# Altium footprint library Connector.PcbLib: 97 footprints (part 5 of 7)
Each footprint in its own frame and in the unit in brackets; x right, y up, seen from the top. Pads: shape width x height; smd on the part's side, far side on the other; paste and mask are expansions set on the pad; w line width, h text height; cw(c..) or ccw(c..) is an arc to the next point about the centre after c.
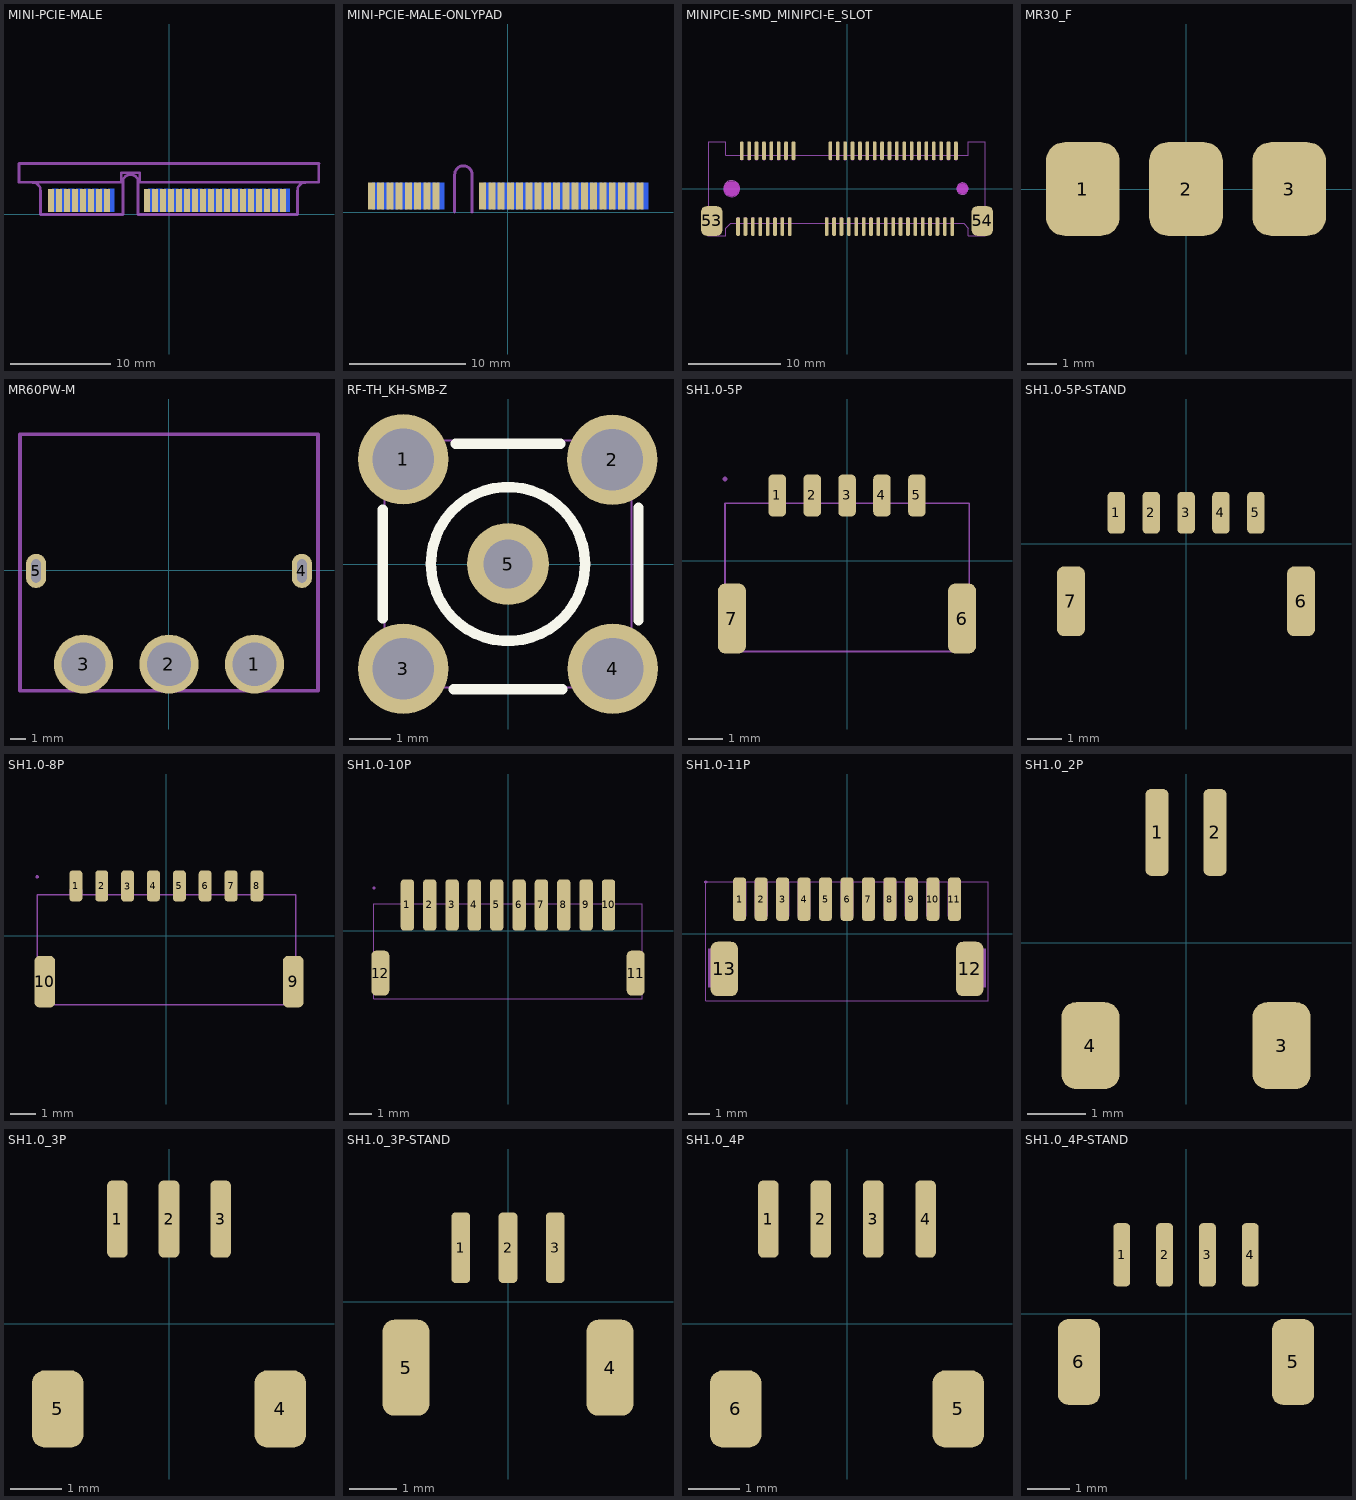
[diagram p4: the footprints below, top view; thin cyan lines are the x and y axes]

## MINI-PCIE-MALE [mm]
pads (52):
  rect 0.6x2.3 smd paste+0 mask+0.102: 1(-11.8,1.4) 3(-11,1.4) 5(-10.2,1.4) 7(-9.4,1.4) 9(-8.6,1.4) 11(-7.8,1.4) 13(-7,1.4) 15(-6.2,1.4) 17(-2.2,1.4) 19(-1.4,1.4) 21(-0.6,1.4) 23(0.2,1.4) 25(1,1.4) 27(1.8,1.4) 29(2.6,1.4) 31(3.4,1.4) 33(4.2,1.4) 35(5,1.4) 37(5.8,1.4) 39(6.6,1.4) 41(7.4,1.4) 43(8.2,1.4) 45(9,1.4) 47(9.8,1.4) 49(10.6,1.4) 51(11.4,1.4)
  rect 0.6x2.3 smd far side paste+0 mask+0.102: 2(-11.4,1.4) 4(-10.6,1.4) 6(-9.8,1.4) 8(-9,1.4) 10(-8.2,1.4) 12(-7.4,1.4) 14(-6.6,1.4) 16(-5.8,1.4) 18(-1.8,1.4) 20(-1,1.4) 22(-0.2,1.4) 24(0.6,1.4) 26(1.4,1.4) 28(2.2,1.4) 30(3,1.4) 32(3.8,1.4) 34(4.6,1.4) 36(5.4,1.4) 38(6.2,1.4) 40(7,1.4) 42(7.8,1.4) 44(8.6,1.4) 46(9.4,1.4) 48(10.2,1.4) 50(11,1.4) 52(11.8,1.4)
Mechanical 1:
  lines w0.254: -15,5.08 -15,3.205 -13.654,3.205 ; -13.65,3.2 cw(c-13.65,2.4) -12.85,2.4 -12.85,0 -4.6,0 -4.6,3.25 cw(c-3.85,3.25) -3.1,3.25 -3.1,0 12.85,0 12.85,2.4 cw(c13.65,2.4) 13.65,3.2 ; 13.651,3.205 14.997,3.205 14.997,5.08
Mechanical 6:
  lines w0.254: -15,3.205 -4.79,3.205 -4.79,4.196 -2.91,4.196 -2.91,3.205 14.997,3.205 ; -15,5.1 15,5.1

## MINI-PCIE-MALE-ONLYPAD [mm]
pads (52):
  rect 0.6x2.3 smd paste+0 mask+0.102: 1(-11.8,1.4) 3(-11,1.4) 5(-10.2,1.4) 7(-9.4,1.4) 9(-8.6,1.4) 11(-7.8,1.4) 13(-7,1.4) 15(-6.2,1.4) 17(-2.2,1.4) 19(-1.4,1.4) 21(-0.6,1.4) 23(0.2,1.4) 25(1,1.4) 27(1.8,1.4) 29(2.6,1.4) 31(3.4,1.4) 33(4.2,1.4) 35(5,1.4) 37(5.8,1.4) 39(6.6,1.4) 41(7.4,1.4) 43(8.2,1.4) 45(9,1.4) 47(9.8,1.4) 49(10.6,1.4) 51(11.4,1.4)
  rect 0.6x2.3 smd far side paste+0 mask+0.102: 2(-11.4,1.4) 4(-10.6,1.4) 6(-9.8,1.4) 8(-9,1.4) 10(-8.2,1.4) 12(-7.4,1.4) 14(-6.6,1.4) 16(-5.8,1.4) 18(-1.8,1.4) 20(-1,1.4) 22(-0.2,1.4) 24(0.6,1.4) 26(1.4,1.4) 28(2.2,1.4) 30(3,1.4) 32(3.8,1.4) 34(4.6,1.4) 36(5.4,1.4) 38(6.2,1.4) 40(7,1.4) 42(7.8,1.4) 44(8.6,1.4) 46(9.4,1.4) 48(10.2,1.4) 50(11,1.4) 52(11.8,1.4)
Mechanical 1:
  lines w0.254: -4.6,0 -4.6,3.25 cw(c-3.85,3.25) -3.1,3.25 -3.1,0

## MINIPCIE-SMD_MINIPCI-E_SLOT [mm]
pads (54):
  rrect50% 0.4x2 smd: 1(-11.8,-4.1) 2(-11.4,4.1) 3(-11,-4.1) 4(-10.6,4.1) 5(-10.2,-4.1) 6(-9.8,4.1) 7(-9.4,-4.1) 8(-9,4.1) 9(-8.6,-4.1) 10(-8.2,4.1) 11(-7.8,-4.1) 12(-7.4,4.1) 13(-7,-4.1) 14(-6.6,4.1) 15(-6.2,-4.1) 16(-5.8,4.1) 17(-2.2,-4.1) 18(-1.8,4.1) 19(-1.4,-4.1) 20(-1,4.1) 21(-0.6,-4.1) 22(-0.2,4.1) 23(0.2,-4.1) 24(0.6,4.1) 25(1,-4.1) 26(1.4,4.1) 27(1.8,-4.1) 28(2.2,4.1) 29(2.6,-4.1) 30(3,4.1) 31(3.4,-4.1) 32(3.8,4.1) 33(4.2,-4.1) 34(4.6,4.1) 35(5,-4.1) 36(5.4,4.1) 37(5.8,-4.1) 38(6.2,4.1) 39(6.602,-4.1) 40(7,4.1) 41(7.4,-4.1) 42(7.8,4.1) 43(8.2,-4.1) 44(8.6,4.1) 45(9,-4.1) 46(9.402,4.1) 47(9.8,-4.1) 48(10.2,4.1) 49(10.6,-4.1) 50(11,4.1) 51(11.4,-4.1) 52(11.8,4.1)
  rrect50% 2.3x3.2 smd: 53(-14.65,-3.5) 54(14.65,-3.5)
Keep-Out Layer:
  board cut-out: 13.125,0 13.124,0.124 13.029,0.353 12.853,0.528 12.624,0.622 12.376,0.622 12.147,0.528 11.971,0.353 11.875,0.124 11.875,0 11.875,-0.124 11.971,-0.353 12.147,-0.528 12.376,-0.622 12.624,-0.622 12.853,-0.528 13.029,-0.353 13.124,-0.124 13.125,0
  board cut-out: -11.625,0 -11.626,0.114 -11.687,0.335 -11.803,0.532 -11.966,0.694 -12.164,0.807 -12.386,0.866 -12.615,0.866 -12.836,0.807 -13.034,0.693 -13.197,0.532 -13.313,0.335 -13.374,0.114 -13.375,0 -13.374,-0.115 -13.313,-0.335 -13.197,-0.533 -13.034,-0.694 -12.836,-0.807 -12.614,-0.866 -12.386,-0.866 -12.164,-0.807 -11.966,-0.694 -11.803,-0.533 -11.687,-0.335 -11.626,-0.114 -11.625,0
Mechanical 1:
  circle w0.005: c12.5,0 r0.625
  circle w0.005: c-12.5,0 r0.875
Mechanical 6:
  circle w0.55: c12.5,0 r0.275
  circle w0.8: c-12.5,0 r0.4
Mechanical 15:
  drawing of 69 lines, arcs and shapes, not listed
3D body "minipcie.step": height 4.13, standoff -0.47, extent -14.991,-5.05 15.009,5.15

## MR30_F [mm] "MR30_F_卧贴"
pads (3):
  rrect50% 2.5x3.175 smd: 1(-3.5,0) 2(0,0) 3(3.5,0)
3D body "User Library-Amass MR30-FB.step": height 2.6, standoff -2.6, extent -6.1,-11.842 6.1,0.658

## MR60PW-M [mm]
pads (5):
  round 3.8 hole 2.8 mask+0.051: 1(5.5,-6.034) 2(0,-6.034) 3(-5.5,-6.034)
  oval 1.3x2.2 hole 0.6 slot 1.5 at 90 deg paste-2539.97 mask+0.05: 4(8.55,-0.034) 5(-8.55,-0.034)
Mechanical 15:
  lines w0.254: -9.6,-7.742 -9.6,8.758 9.6,8.758 9.6,-7.742 -9.6,-7.742
3D body "3D_PCB1_2023-12-06000.step": height 8.58, standoff -2.87, extent -9.6,-8.164 9.6,11.336

## RF-TH_KH-SMB-Z [mm]
pads (5):
  round 2.2 hole 1.5 paste-2539.97 mask+0.05: 1(-2.55,2.55) 2(2.54,2.54) 3(-2.55,-2.55) 4(2.55,-2.55)
  round 2 hole 1.2 paste-2539.97 mask+0.05: 5(0,0)
Top Overlay:
  circle w0.254: c0,0 r1.875
  lines w0.254: -3.048,-1.316 -3.048,1.316 ; -1.316,-3.048 1.316,-3.048 ; -1.272,2.921 1.272,2.921 ; 3.175,-1.375 3.175,1.375
Mechanical 15:
  region: 0.45,0 0.45,0.09 0.382,0.255 0.255,0.382 0.09,0.45 -0.09,0.45 -0.255,0.382 -0.382,0.255 -0.45,0.09 -0.45,0 -0.45,-0.09 -0.382,-0.255 -0.255,-0.382 -0.09,-0.45 0.09,-0.45 0.255,-0.382 0.382,-0.255 0.45,-0.09 0.45,0
  region: 2.1,3 3,3 3,2.1 2.1,2.1
  region: 2.1,-2.1 3,-2.1 3,-3 2.1,-3
  region: -3,-2.1 -2.1,-2.1 -2.1,-3 -3,-3
  region: -3,3 -2.1,3 -2.1,2.1 -3,2.1
  region: -2.94,3 -2.94,3.025 -2.975,3.06 -3.025,3.06 -3.06,3.025 -3.06,3 -3.06,2.975 -3.025,2.94 -2.975,2.94 -2.94,2.975 -2.94,3
  lines w0.051: -3,-3 3,-3 3,3 -3,3 -3,-3

## SH1.0-5P [mm]
pads (7):
  rrect50% 0.5x1.2 smd paste+0 mask+0.051: 1(-2,1.876) 2(-1,1.876) 3(0,1.876) 4(1,1.876) 5(2,1.876)
  rrect50% 0.8x2 smd paste+0 mask+0.051: 6(3.298,-1.651) 7(-3.302,-1.651)
Mechanical 15:
  region: -3.44,2.351 -3.44,2.376 -3.475,2.411 -3.525,2.411 -3.56,2.376 -3.56,2.351 -3.56,2.327 -3.525,2.291 -3.475,2.291 -3.44,2.327 -3.44,2.351
  region: 2.1,1.401 1.9,1.401 1.9,2.351 2.1,2.351
  region: 1.1,1.401 0.9,1.401 0.9,2.351 1.1,2.351
  region: 0.1,1.401 -0.1,1.401 -0.1,2.351 0.1,2.351
  region: -0.9,1.401 -1.1,1.401 -1.1,2.351 -0.9,2.351
  region: -1.9,1.401 -2.1,1.401 -2.1,2.351 -1.9,2.351
  region: -3.4,-1.099 -3.2,-1.099 -3.2,-2.599 -3.4,-2.599
  region: 3.2,-1.099 3.4,-1.099 3.4,-2.599 3.2,-2.599
  lines w0.051: -3.5,-2.599 -3.5,1.651 3.5,1.651 3.5,-2.599 -3.5,-2.599
3D body "SM5B-SRSS-TB.step": height 2.9, standoff -0.05, extent -3.5,-2.599 3.5,2.351

## SH1.0-5P-STAND [mm]
pads (7):
  rrect50% 0.5x1.2 smd paste+0 mask+0.051: 1(-2,0.889) 2(-1,0.889) 3(0,0.889) 4(1,0.889) 5(2,0.889)
  rrect50% 0.8x2 smd paste+0 mask+0.051: 6(3.298,-1.651) 7(-3.302,-1.651)
Mechanical 15:
  region: -3.4,-1.099 -3.2,-1.099 -3.2,-2.599 -3.4,-2.599
  region: 3.2,-1.099 3.4,-1.099 3.4,-2.599 3.2,-2.599
3D body "BM5B-SRSS-TB.step": height 4.25, standoff -0.05, extent -3.5,-2.584 3.5,1.016

## SH1.0-8P [mm]
pads (10):
  rrect50% 0.5x1.2 smd paste+0 mask+0.051: 1(-3.5,1.924) 2(-2.5,1.924) 3(-1.5,1.922) 4(-0.5,1.924) 5(0.5,1.924) 6(1.5,1.924) 7(2.5,1.924) 8(3.5,1.924)
  rrect50% 0.8x2 smd paste+0 mask+0.051: 9(4.901,-1.778) 10(-4.699,-1.778)
Mechanical 6:
  circle w0.254: c-3.5,1.7 r0.127
Mechanical 15:
  region: -4.94,2.276 -4.94,2.3 -4.975,2.336 -5.025,2.336 -5.06,2.3 -5.06,2.276 -5.06,2.251 -5.025,2.216 -4.975,2.216 -4.94,2.251 -4.94,2.276
  region: 3.6,1.476 3.4,1.476 3.4,2.276 3.6,2.276
  region: 2.6,1.476 2.4,1.476 2.4,2.276 2.6,2.276
  region: 1.6,1.476 1.4,1.476 1.4,2.276 1.6,2.276
  region: 0.6,1.476 0.4,1.476 0.4,2.276 0.6,2.276
  region: -0.4,1.476 -0.6,1.476 -0.6,2.276 -0.4,2.276
  region: -1.4,1.476 -1.6,1.476 -1.6,2.276 -1.4,2.276
  region: -2.4,1.476 -2.6,1.476 -2.6,2.276 -2.4,2.276
  region: -3.4,1.476 -3.6,1.476 -3.6,2.276 -3.4,2.276
  region: 4.65,-1.174 4.95,-1.174 4.95,-2.674 4.65,-2.674
  region: -4.95,-1.174 -4.65,-1.174 -4.65,-2.674 -4.95,-2.674
  lines w0.051: -5,-2.674 -5,1.576 5,1.576 5,-2.674 -5,-2.674
3D body "SM8B-SRSS-TB.step": height 2.9, standoff -0.05, extent -5,-2.774 5,2.176

## SH1.0-10P [mm]
pads (12):
  rrect50% 0.6x2.286 smd paste+0 mask+0.051: 1(-4.503,1.143) 2(-3.503,1.143) 3(-2.5,1.143) 4(-1.503,1.143) 5(-0.503,1.143) 6(0.497,1.143) 7(1.497,1.143) 8(2.497,1.143) 9(3.497,1.143) 10(4.499,1.143)
  rrect50% 0.8x2 smd paste+0 mask+0.051: 11(5.715,-1.905) 12(-5.715,-1.905)
Mechanical 15:
  region: -5.94,1.904 -5.94,1.929 -5.975,1.964 -6.025,1.964 -6.06,1.929 -6.06,1.904 -6.06,1.88 -6.025,1.844 -5.975,1.844 -5.94,1.88 -5.94,1.904
  region: 4.599,1.154 4.399,1.154 4.399,1.904 4.599,1.904
  region: 3.597,1.154 3.397,1.154 3.397,1.904 3.597,1.904
  region: 2.597,1.154 2.397,1.154 2.397,1.904 2.597,1.904
  region: 1.597,1.154 1.397,1.154 1.397,1.904 1.597,1.904
  region: 0.597,1.154 0.397,1.154 0.397,1.904 0.597,1.904
  region: -0.403,1.154 -0.603,1.154 -0.603,1.904 -0.403,1.904
  region: -1.403,1.154 -1.603,1.154 -1.603,1.904 -1.403,1.904
  region: -2.4,1.154 -2.6,1.154 -2.6,1.904 -2.4,1.904
  region: -3.403,1.154 -3.603,1.154 -3.603,1.904 -3.403,1.904
  region: -4.403,1.154 -4.603,1.154 -4.603,1.904 -4.403,1.904
  region: -5.926,-1.255 -5.676,-1.255 -5.676,-2.555 -5.926,-2.555
  region: 5.676,-1.255 5.926,-1.255 5.926,-2.555 5.676,-2.555
  lines w0.051: -6,-3.046 -6,1.204 6,1.204 6,-3.046 -6,-3.046
3D body "SM10B-SRSS-TB.step": height 2.9, standoff -0.05, extent -6.003,-3.096 5.997,1.854

## SH1.0-11P [mm] "SH1.0-11P卧贴"
pads (13):
  rrect50% 0.6x2.032 smd mask+0.05: 1(-5,1.6) 2(-4,1.6) 3(-3,1.6) 4(-2,1.6) 5(-1,1.6) 6(0,1.6) 7(1,1.6) 8(2,1.6) 9(3,1.6) 10(4,1.6) 11(5,1.6)
  rrect50% 1.27x2.54 smd mask+0.05: 12(5.715,-1.651) 13(-5.715,-1.651)
Mechanical 15:
  region: 4.7,2.4 5.3,2.4 5.3,0.8 4.7,0.8
  region: 5.65,-0.7 6.45,-0.7 6.45,-2.5 5.65,-2.5
  region: -6.45,-0.7 -5.65,-0.7 -5.65,-2.5 -6.45,-2.5
  region: 3.7,2.4 4.3,2.4 4.3,0.8 3.7,0.8
  region: 2.7,2.4 3.3,2.4 3.3,0.8 2.7,0.8
  region: 1.7,2.4 2.3,2.4 2.3,0.8 1.7,0.8
  region: 0.7,2.4 1.3,2.4 1.3,0.8 0.7,0.8
  region: -0.3,2.4 0.3,2.4 0.3,0.8 -0.3,0.8
  region: -1.3,2.4 -0.7,2.4 -0.7,0.8 -1.3,0.8
  region: -2.3,2.4 -1.7,2.4 -1.7,0.8 -2.3,0.8
  region: -3.3,2.4 -2.7,2.4 -2.7,0.8 -3.3,0.8
  region: -4.3,2.4 -3.7,2.4 -3.7,0.8 -4.3,0.8
  region: -5.3,2.4 -4.7,2.4 -4.7,0.8 -5.3,0.8
  region: -6.517,2.4 -6.517,2.425 -6.552,2.46 -6.602,2.46 -6.637,2.425 -6.637,2.4 -6.637,2.375 -6.602,2.34 -6.552,2.34 -6.517,2.375 -6.517,2.4
  lines w0.051: -6.577,-3.127 -6.577,2.4 6.577,2.4 6.577,-3.127 -6.577,-3.127
3D body "SM11B-SRSS-TB.step": height 2.9, standoff -0.05, extent -6.5,-2.794 6.5,2.156

## SH1.0_2P [mm] "SH1.0_2P"
pads (4):
  rrect50% 0.4x1.5 smd: 1(-0.5,1.905) 2(0.5,1.905)
  rrect50% 1x1.5 smd: 3(1.651,-1.778) 4(-1.651,-1.778)
3D body "SM2B-SRSS-TB.step": height 2.9, standoff -0.05, extent -2.008,-2.472 1.992,2.478

## SH1.0_3P [mm] "SH1.0_3P"
pads (5):
  rrect50% 0.4x1.5 smd: 1(-1,2.032) 2(0,2.032) 3(1,2.032)
  rrect50% 1x1.5 smd: 4(2.159,-1.651) 5(-2.159,-1.651)
3D body "SM3B-SRSS-TB.step": height 2.9, standoff -0.05, extent -2.516,-2.345 2.484,2.605

## SH1.0_3P-STAND [mm] "SH1.0_3P"
pads (5):
  rrect50% 0.4x1.5 smd: 1(-1,1.143) 2(0,1.143) 3(1,1.143)
  rrect50% 1x2.032 smd: 4(2.159,-1.397) 5(-2.159,-1.397)
3D body "BM3B-SRSS-TB.step": height 4.25, standoff -0.05, extent -2.5,-2.286 2.5,1.314

## SH1.0_4P [mm] "SH1.0_4P"
pads (6):
  rrect50% 0.4x1.5 smd: 1(-1.524,2.032) 2(-0.508,2.032) 3(0.508,2.032) 4(1.524,2.032)
  rrect50% 1x1.5 smd: 5(2.159,-1.651) 6(-2.159,-1.651)
3D body "SM4B-SRSS-TB.step": height 2.9, standoff -0.05, extent -3,-2.332 3,2.618

## SH1.0_4P-STAND [mil] "SH1.0_4P"
pads (6):
  rrect50% 15.75x59.06 smd: 1(-60,55) 2(-20,55) 3(20,55) 4(60,55)
  rrect50% 39.37x80 smd: 5(100,-45) 6(-100,-45)
3D body "BM4B-SRSS-TB.step": height 167.32, standoff -1.97, extent -118.11,-81.73 118.11,60